# Altium schematic symbol library Schlib1.SchLib: 36 symbols
Pins are listed as number, name and electrical type; pins without a type are passive.

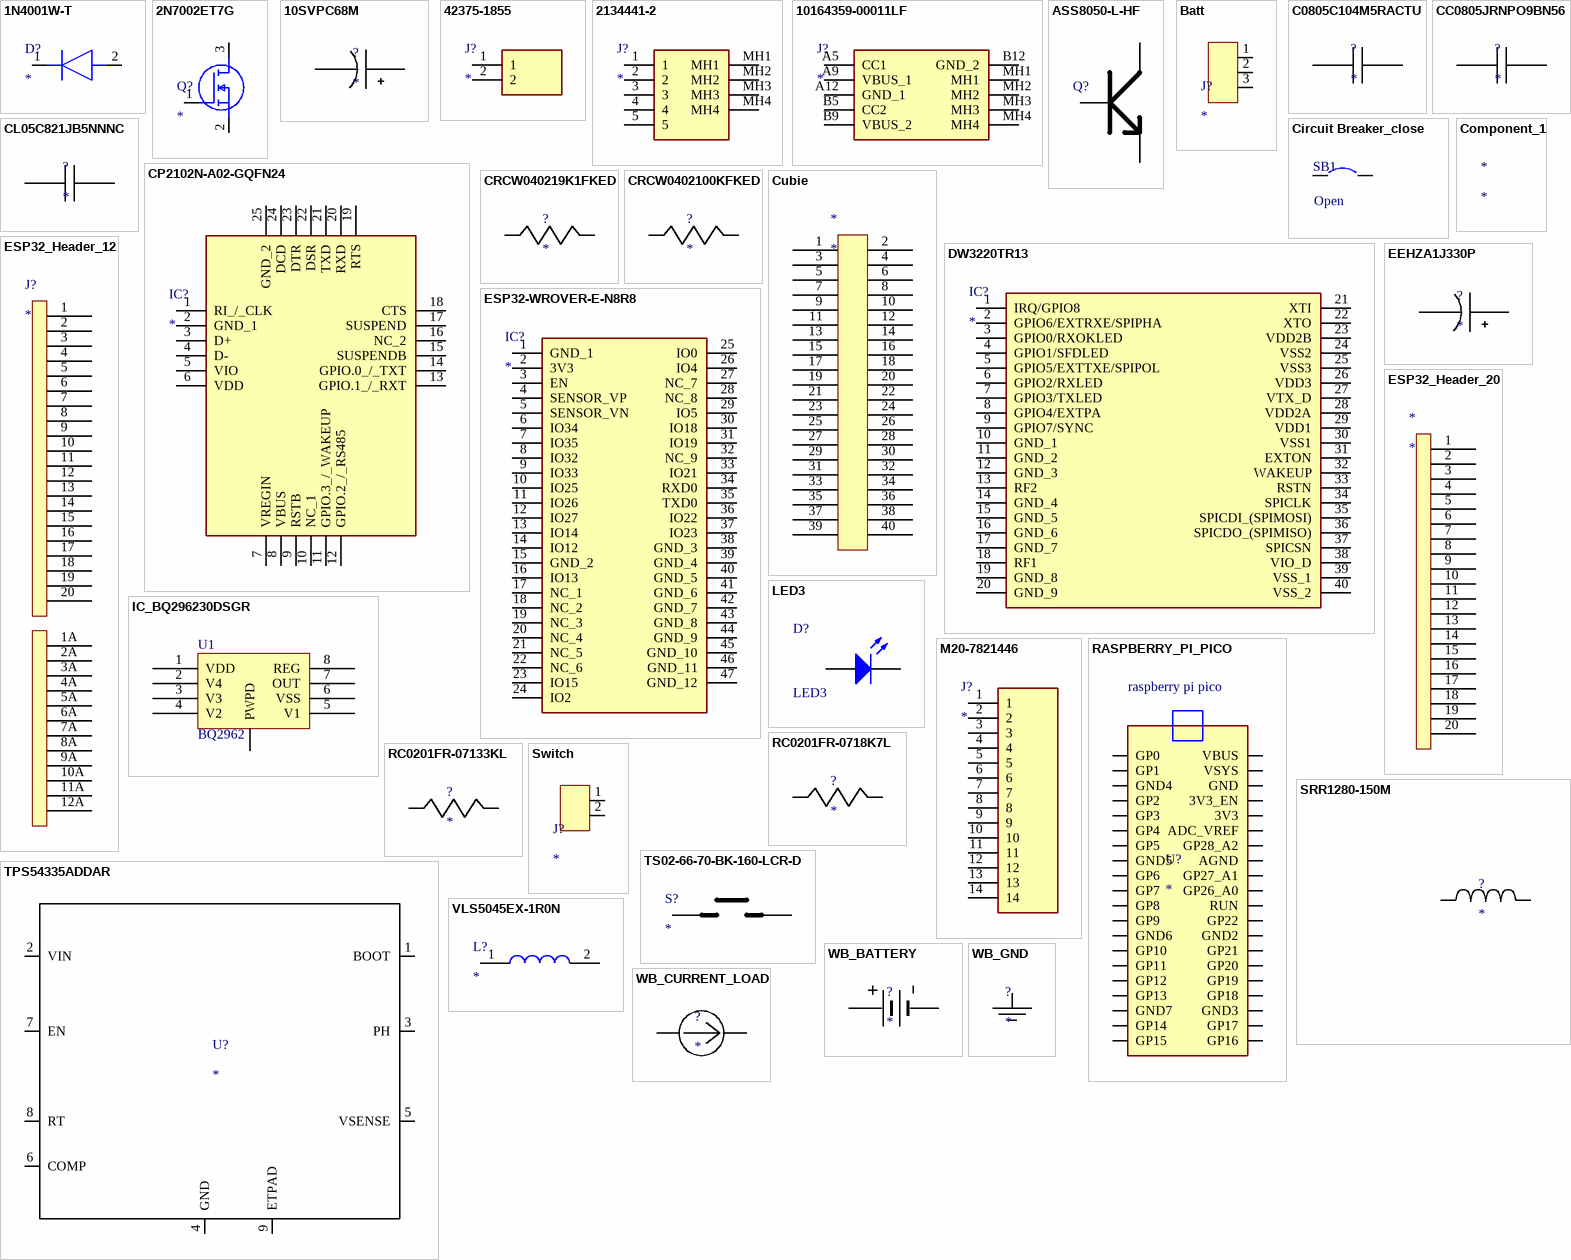
[diagram p0: symbols 1N4001W-T to WB_GND]

## 1N4001W-T
designator D?
Diode; Manufacturer_Name: Rectron; Manufacturer_Part_Number: 1N4001W-T; Description: Rectifiers SOD-123,1A,50V,GP; Datasheet Link: https://gr.mouser.com/datasheet/2/345/1n4001w_1n4007w-2449105.pdf; Height: 1.3mm; Mouser Part Number: 583-1N4001W-T; Mouser Price/Stock: https://www.mouser.co.uk/ProductDetail/Rectron/1N4001W-T?qs=QNEnbhJQKvbnHIVMak28nQ%3D%3D
footprint SODFL3818X130N
pins: 1 K, 2 A

## 2N7002ET7G
designator Q?
MOSFET (N-Channel); Manufacturer_Name: onsemi; Manufacturer_Part_Number: 2N7002ET7G; Description: Small ; Low RDS(on); Trench Technology; RoHS Compliant; Datasheet Link: https://www.onsemi.com/pub/Collateral/2N7002E-D.PDF; Height: 1.11mm; Mouser Part Number: 863-2N7002ET7G; Mouser Price/Stock: https://www.mouser.co.uk/ProductDetail/onsemi/2N7002ET7G?qs=l7cgNqFNU1iSXTOSQi2ecw%3D%3D; Arrow Part Number: 2N7002ET7G; Arrow Price/Stock: https://www.arrow.com/en/products/2n7002et7g/on-semiconductor?utm_currency=USD&region=nac
footprint SOT96P237X111-3N
pins: 1 G, 2 S, 3 D

## 10SVPC68M
designator ?
No Description Available; Manufacturer_Part_Number: 10SVPC68M; Cap: 6.8E-5; ESR: 0.03; IRMS: 1.97; VDC: 10.0; Vendor: Panasonic; Datasheet_URL: https://industrial.panasonic.com/content/data/CP/PDF/OS%2DCON/S%5FOS%2DCON%5FSVPC%5Fe.pdf; Manufacturer_Name: Panasonic; Copyright: Copyright (C) 2018 Accelerated Designs. All rights reserved; RefDes: RefDes; Type: DEV; Value: Value
footprint SM_RADIAL_5MM
pins: 1 +, 2 -

## 42375-1855
designator J?
Connector; Manufacturer_Name: Molex; Manufacturer_Part_Number: 42375-1855; Datasheet Link: http://www.molex.com/pdm_docs/sd/423751855_sd.pdf; Height: 14.94mm; Mouser Part Number: 538-42375-1855; Mouser Price/Stock: https://www.mouser.com/Search/Refine.aspx?Keyword=538-42375-1855
footprint HDRV2W87P0X254_1X2_768X249X1494P
pins: 1, 2

## 2134441-2
designator J?
Connector; Manufacturer_Name: TE Connectivity; Manufacturer_Part_Number: 2134441-2; Description: Body Features: Offset .88 MM | Shell Plating Material Tin over Nickel | Shell Plating Finish Matte | Connector Profile Micro | Configuration Features: Number of Positions 5 | Number of Ports 1 | Contact Features: Contact Mating Area Plating Material Thickness .76 MICM | Contact Current Rating (Max) 1.8 AMP | Contact Mating Area Plating Material Gold | Contact Mating Area Plating Material Thickness 29.52 MICIN | Dimensions: PCB Thickness (Recommended) .8  1. MM | PCB Thickness (Recommended) .031  .039; Datasheet Link: https://www.te.com/commerce/DocumentDelivery/DDEController?Action=srchrtrv&DocNm=5-1773464-3&DocType=Data%20Sheet&DocLang=English&PartCntxt=2134441-2&DocFormat=pdf; Height: 1.9mm; Mouser Part Number: 571-2134441-2; Mouser Price/Stock: https://www.mouser.co.uk/ProductDetail/TE-Connectivity/2134441-2?qs=kAqyOuzYGe%252Bz%252BAPK%2FThl2g%3D%3D; Arrow Part Number: 2134441-2; Arrow Price/Stock: https://www.arrow.com/en/products/2134441-2/te-connectivity?region=nac
footprint 21344412
pins: 1, 2, 3, 4, 5, MH1, MH2, MH3, MH4

## 10164359-00011LF
designator J?
Connector; Manufacturer_Name: Amphenol; Manufacturer_Part_Number: 10164359-00011LF; Datasheet Link: https://cdn.amphenol-cs.com/media/wysiwyg/files/drawing/10164359.pdf; Height: 3.41mm; Mouser Part Number: 649-10164359-00011LF; Mouser Price/Stock: https://www.mouser.co.uk/ProductDetail/Amphenol-FCI/10164359-00011LF?qs=MyNHzdoqoQLpQ%2FmSqA1%252BtQ%3D%3D; Arrow Part Number: 10164359-00011LF; Arrow Price/Stock: https://www.arrow.com/en/products/10164359-00011lf/amphenol-fci?region=nac
footprint 1016435900011LF
pins: A5 CC1, A9 VBUS_1, A12 GND_1, B5 CC2, B9 VBUS_2, B12 GND_2, MH1, MH2, MH3, MH4

## ASS8050-L-HF
designator Q?  (value not drawn)
Transistor; Manufacturer_Name: Comchip Technology; Manufacturer_Part_Number: ASS8050-L-HF; Description: Bipolar Transistors - BJT AUTOMOTIVE TRANS GEN PURP NPN 40V 1.5A 0.3W SOT-23; Datasheet Link: https://br.mouser.com/datasheet/2/80/AQW_JTR13_ASS8050_L_HF_Thru__ASS8050_H_HF_RevA-1923834.pdf; Height: 1.15mm; Mouser Part Number: 750-ASS8050-L-HF; Mouser Price/Stock: https://www.mouser.co.uk/ProductDetail/Comchip-Technology/ASS8050-L-HF?qs=hd1VzrDQEGiiYR01OS8DDQ%3D%3D; Arrow Part Number: ASS8050-L-HF; Arrow Price/Stock: https://www.arrow.com/en/products/ass8050-l-hf/comchip-technology?utm_currency=USD&region=nac
footprint SOT95P240X115-3N
pins: 1 B, 2 E, 3 C

## Batt
designator J?
pins: 1, 2, 3

## C0805C104M5RACTU
designator ?
No Description Available; Manufacturer_Part_Number: C0805C104M5RACTU; Cap: 1.0E-7; ESR: 0.064; IRMS: 1.64; VDC: 50.0; Vendor: Kemet; REFDES_2: RefDes; TYPE_2: TYPE; VALUE_2: Value; Manufacturer_Name: Kemet; Copyright: Copyright (C) 2018 Accelerated Designs. All rights reserved; RefDes: RefDes; Type: DEV; Value: Value
footprint 0805
pins: 1, 2

## CC0805JRNPO9BN56
designator ?
No Description Available; Manufacturer_Part_Number: CC0805JRNPO9BN560; Manufacturer_Name: Yageo; Cap: 5.6E-11; ESR: 0.0; VDC: 50.0; Vendor: Yageo America; REFDES_2: RefDes; TYPE_2: TYPE; VALUE_2: Value; Datasheet_URL: http://www.yageo.com/documents/recent/UPY%2DGP%5FNP0%5F16V%2Dto%2D50V%5F10.pdf; IRMS: 0.0; Copyright: Copyright (C) 2018 Accelerated Designs. All rights reserved; RefDes: RefDes; Type: DEV; Value: Value
footprint 0805
pins: 1, 2

## Circuit Breaker_close
designator SB1, comment Open
Circuit Breaker; Published: 24-Mar-1999; Revision: July-2002: Re-released for DXP Platform.; Publisher: Altium Limited
footprint HDRV2W87P0X254_1X2_768X249X1494P - duplicate
pins: 1, 2

## CL05C821JB5NNNC
designator ?
No Description Available; Manufacturer_Part_Number: CL05C821JB5NNNC; Cap: 8.2E-10; ESR: 0.0; VDC: 50.0; Vendor: Samsung Electro-Mechanics; REFDES_2: RefDes; TYPE_2: TYPE; VALUE_2: Value; Datasheet_URL: http://www.samsungsem.com/servlet/FileDownload?type%3Dspec%26file%3DCL05C821JB5NNNC.pdf; IRMS: 0.0; Manufacturer_Name: Samsung Electro-Mechanics; Copyright: Copyright (C) 2018 Accelerated Designs. All rights reserved; RefDes: RefDes; Type: DEV; Value: Value
footprint 0402
pins: 1, 2

## Component_1
designator *

## CP2102N-A02-GQFN24
designator IC?
Integrated Circuit; Manufacturer_Name: Silicon Labs; Manufacturer_Part_Number: CP2102N-A02-GQFN24; Description: USB Interface IC USB to UART bridge - QFN24; Datasheet Link: https://componentsearchengine.com/Datasheets/1/CP2102N-A02-GQFN24.pdf; Height: 0.8mm; Mouser Part Number: 634-CP2102NA02GQFN24; Mouser Price/Stock: https://www.mouser.co.uk/ProductDetail/Silicon-Labs/CP2102N-A02-GQFN24?qs=u16ybLDytRYKabtL%2FE7DZA%3D%3D; Arrow Part Number: CP2102N-A02-GQFN24; Arrow Price/Stock: https://www.arrow.com/en/products/cp2102n-a02-gqfn24/silicon-labs?utm_currency=USD&region=nac
footprint QFN50P400X400X80-25N-D
pins: 1 RI_/_CLK, 2 GND_1, 3 D+, 4 D-, 5 VIO, 6 VDD, 7 VREGIN, 8 VBUS, 9 RSTB, 10 NC_1, 11 GPIO.3_/_WAKEUP, 12 GPIO.2_/_RS485, 13 GPIO.1_/_RXT, 14 GPIO.0_/_TXT, 15 SUSPENDB, 16 NC_2, 17 SUSPEND, 18 CTS, 19 RTS, 20 RXD, 21 TXD, 22 DSR, 23 DTR, 24 DCD, 25 GND_2

## CRCW040219K1FKED
designator ?
No Description Available; Manufacturer_Part_Number: CRCW040219K1FKED; Resistance: 19100.0; Power: 0.063; Tolerance: 1.0; Vendor: Vishay-Dale; Manufacturer_Name: Vishay-Dale; Copyright: Copyright (C) 2018 Accelerated Designs. All rights reserved; RefDes: RefDes; Type: DEV; Value: Value
footprint 0402
pins: 1, 2

## CRCW0402100KFKED
designator ?
No Description Available; Manufacturer_Part_Number: CRCW0402100KFKED; Resistance: 100000.0; Power: 0.063; Tolerance: 1.0; Vendor: Vishay-Dale; Manufacturer_Name: Vishay-Dale; Copyright: Copyright (C) 2018 Accelerated Designs. All rights reserved; RefDes: RefDes; Type: DEV; Value: Value
footprint 0402
pins: 1, 2

## Cubie
designator *
pins: 1 9, 2 10, 3 11, 4 12, 5 13, 6 14, 7 15, 8 16, 9 17, 10 18, 11 19, 12 20, 13 21, 14 22, 15 23, 16 24, 17, 18, 19, 20, 21, 22, 23, 24, 25, 26, 27, 28, 29, 30, 31, 32, 33, 34, 35, 36, 37, 38, 39, 40

## DW3220TR13
designator IC?
Integrated Circuit; Manufacturer_Name: Qorvo; Manufacturer_Part_Number: DW3220TR13; Description: 6.5 & 8.0 GHz Ultra-Wideband (UWB) Transceiver IC with 2 Antenna Ports; Datasheet Link: https://www.qorvo.com/products/d/da008142; Mouser Part Number: 772-DW3220TR13; Mouser Price/Stock: https://www.mouser.co.uk/ProductDetail/Qorvo/DW3220TR13?qs=hWgE7mdIu5Rlynx3NsHs6w%3D%3D
footprint DW3220TR13-1
pins: 1 IRQ/GPIO8, 2 GPIO6/EXTRXE/SPIPHA, 3 GPIO0/RXOKLED, 4 GPIO1/SFDLED, 5 GPIO5/EXTTXE/SPIPOL, 6 GPIO2/RXLED, 7 GPIO3/TXLED, 8 GPIO4/EXTPA, 9 GPIO7/SYNC, 10 GND_1, 11 GND_2, 12 GND_3, 13 RF2, 14 GND_4, 15 GND_5, 16 GND_6, 17 GND_7, 18 RF1, 19 GND_8, 20 GND_9, 21 XTI, 22 XTO, 23 VDD2B, 24 VSS2, 25 VSS3, 26 VDD3, 27 VTX_D, 28 VDD2A, 29 VDD1, 30 VSS1, 31 EXTON, 32 WAKEUP, 33 RSTN, 34 SPICLK, 35 SPICDI_(SPIMOSI), 36 SPICDO_(SPIMISO), 37 SPICSN, 38 VIO_D, 39 VSS_1, 40 VSS_2

## EEHZA1J330P
designator ?
No Description Available; Manufacturer_Part_Number: EEHZA1J330P; Cap: 3.3E-5; ESR: 0.04; IRMS: 1.7; VDC: 63.0; Vendor: Panasonic; Datasheet_URL: http://industrial.panasonic.com/www%2Ddata/pdf/ABA0000/ABA0000CE136.pdf; Manufacturer_Name: Panasonic; Copyright: Copyright (C) 2018 Accelerated Designs. All rights reserved; RefDes: RefDes; Type: DEV; Value: Value
footprint SM_RADIAL_8MM
pins: 1 +, 2 -

## ESP32-WROVER-E-N8R8
designator IC?
Integrated Circuit; Manufacturer_Name: Espressif Systems; Manufacturer_Part_Number: ESP32-WROVER-E-N8R8; Description: Multiprotocol Modules SMD Module ESP32-WROVER-E; Datasheet Link: https://www.espressif.com/sites/default/files/documentation/esp32-wrover-e_esp32-wrover-ie_datasheet_en.pdf; Height: 3.45mm; Mouser Part Number: 356-ESP32WRVE26464PC; Mouser Price/Stock: https://www.mouser.co.uk/ProductDetail/Espressif-Systems/ESP32-WROVER-E-N8R8?qs=Li%252BoUPsLEnv2mctFVAGY3g%3D%3D
footprint ESP32WROVEREN8R8
pins: 1 GND_1, 2 3V3, 3 EN, 4 SENSOR_VP, 5 SENSOR_VN, 6 IO34, 7 IO35, 8 IO32, 9 IO33, 10 IO25, 11 IO26, 12 IO27, 13 IO14, 14 IO12, 15 GND_2, 16 IO13, 17 NC_1, 18 NC_2, 19 NC_3, 20 NC_4, 21 NC_5, 22 NC_6, 23 IO15, 24 IO2, 25 IO0, 26 IO4, 27 NC_7, 28 NC_8, 29 IO5, 30 IO18, 31 IO19, 32 NC_9, 33 IO21, 34 RXD0, 35 TXD0, 36 IO22, 37 IO23, 38 GND_3, 39 GND_4, 40 GND_5, 41 GND_6, 42 GND_7, 43 GND_8, 44 GND_9, 45 GND_10, 46 GND_11, 47 GND_12

## ESP32_Header_12
designator J?
pins: 1, 1A, 2, 2A, 3, 3A, 4, 4A, 5, 5A, 6, 6A, 7, 7A, 8, 8A, 9, 9A, 10, 10A, 11, 11A, 12, 12A, 13, 14, 15, 16, 17, 18, 19, 20

## ESP32_Header_20
designator *
pins: 1, 2, 3, 4, 5, 6, 7, 8, 9, 10, 11, 12, 13, 14, 15, 16, 17, 18, 19, 20

## IC_BQ296230DSGR
designator U1, comment BQ2962
Battery Management Overvoltage Protection for 2-Series, 3-Series, and 4-Series Cell Li-Ion 8-WSON -40 to 110; Manufacturer: Texas Instruments; Manufacturer Part Number: BQ296230DSGR; Value: BQ296230DSGR; THT/SMT: SMD/SMT; GoSoft: 129274; Supplier 1: Mouser; RoHS: No; Category: Battery Management; Stock 1: 2932; Pricing 1: 1=0.96000, 10=0.86700, 50=0.82200, 100=0.67600, 1000=0.44100, 10000=0.42600 (USD); Supplier: Mouser; Supplier P/N: 595-BQ296230DSGR; Package: WSON-8; Status: Active; Datasheet: https://www.ti.com/general/docs/suppproductinfo.tsp?distId=26&gotoUrl=https://www.ti.com/lit/gpn/bq2962; Note: *; Verified: 0
footprint WSON-8
pins: 1 VDD, 2 V4, 3 V3, 4 V2, 5 V1, 6 VSS, 6 PWPD, 7 OUT, 8 REG

## LED3
designator D?
LED
footprint SolderWires
pins: 1 A, 2 K

## M20-7821446
designator J?
Connector; Manufacturer_Name: Harwin; Manufacturer_Part_Number: M20-7821446; Datasheet Link: https://cdn.harwin.com/pdfs/M20-782.pdf; Height: 8.65mm; Mouser Part Number: 855-M20-7821446; Mouser Price/Stock: https://www.mouser.co.uk/ProductDetail/Harwin/M20-7821446?qs=Jph8NoUxIfX%2FjYzLF0Toqw%3D%3D
footprint RHDR14W70P0X254_1X14_3596X250X865P
pins: 1, 2, 3, 4, 5, 6, 7, 8, 9, 10, 11, 12, 13, 14

## RASPBERRY_PI_PICO
designator U?
Raspberry Pi Board, Arm Cortex-M0+; Core Architecture:Arm; Core Sub-Architecture:Cortex-M0+; Kit Contents:Raspberry Pi Pico Board; No. Of Bits:32Bit; Silicon Core Number:Rp2040; Silicon Manufacturer:Raspberry Pi |Raspberry-Pi RASPBERRY PI PICO; SnapEDA_Link: https://www.snapeda.com/parts/RASPBERRY%20PI%20PICO/Raspberry+Pi/view-part/?ref=snap; Package: None; Value: *; MF: Raspberry Pi; MP: RASPBERRY PI PICO; Check_prices: https://www.snapeda.com/parts/RASPBERRY%20PI%20PICO/Raspberry+Pi/view-part/?ref=eda
footprint RASPBERRY_PI_PICO
pins: 3V3 (io), 3V3_EN (io), ADC_VREF (io), AGND (io), GND (io), GND2 (io), GND3 (io), GND4 (io), GND5 (io), GND6 (io), GND7 (io), GP0 (io), GP1 (io), GP2 (io), GP3 (io), GP4 (io), GP5 (io), GP6 (io), GP7 (io), GP8 (io), GP9 (io), GP10 (io), GP11 (io), GP12 (io), GP13 (io), GP14 (io), GP15 (io), GP16 (io), GP17 (io), GP18 (io), GP19 (io), GP20 (io), GP21 (io), GP22 (io), GP26_A0 (io), GP27_A1 (io), GP28_A2 (io), RUN (io), VBUS (io), VSYS (io)
text: raspberry pi pico

## RC0201FR-0718K7L
designator ?
No Description Available; Manufacturer_Part_Number: RC0201FR-0718K7L; Manufacturer_Name: Yageo; Resistance: 18700.0; Power: 0.05; Tolerance: 1.0; Vendor: Yageo America; Datasheet_URL: http://www.yageo.com/documents/recent/PYu%2DRC%5FGroup%5F51%5FRoHS%5FL%5F5.pdf; Copyright: Copyright (C) 2018 Accelerated Designs. All rights reserved; RefDes: RefDes; Type: DEV; Value: Value
footprint 0201
pins: 1, 2

## RC0201FR-07133KL
designator ?
No Description Available; Manufacturer_Part_Number: RC0201FR-07133KL; Manufacturer_Name: Yageo; Resistance: 133000.0; Power: 0.05; Tolerance: 1.0; Vendor: Yageo America; Datasheet_URL: http://www.yageo.com/documents/recent/PYu%2DRC%5FGroup%5F51%5FRoHS%5FL%5F5.pdf; Copyright: Copyright (C) 2018 Accelerated Designs. All rights reserved; RefDes: RefDes; Type: DEV; Value: Value
footprint 0201
pins: 1, 2

## SRR1280-150M
designator ?
No Description Available; Manufacturer_Part_Number: SRR1280-150M; L: 1.5E-5; DCR: 0.0285; IDC: 5.0; Vendor: Bourns; Manufacturer_Name: Bourns; Copyright: Copyright (C) 2018 Accelerated Designs. All rights reserved; RefDes: RefDes; Type: DEV; Value: Value
footprint SRR1280
footprint SRR1280
pins: 1, 2

## Switch
designator J?
footprint SWITCH SOLDER
pins: 1, 2

## TPS54335ADDAR
designator U?
No Description Available; Frequency: 1500000.0; Imax: 3.0; Mktg_Package: R-PDSO-G8; NSID: TPS54335ADDAR; Vendor: Texas Instruments; Datasheet_URL: http://www.ti.com/product/TPS54335A; Package: R-PDSO-G8; Manufacturer_Part_Number: TPS54335ADDAR; Manufacturer_Name: Texas Instruments; Copyright: Copyright (C) 2018 Accelerated Designs. All rights reserved; RefDes: RefDes; Type: DEV; Value: Value
footprint R-PDSO-G8
pins: 1 BOOT, 2 VIN, 3 PH, 4 GND, 5 VSENSE, 6 COMP, 7 EN, 8 RT, 9 ETPAD

## TS02-66-70-BK-160-LCR-D
designator S?
Switch; Manufacturer_Name: Same Sky; Manufacturer_Part_Number: TS02-66-70-BK-160-LCR-D; Description: 6 x 6 mm; Datasheet Link: https://www.sameskydevices.com/product/resource/ts02.pdf; Height: 7.2mm; Mouser Part Number: 179-TS026670BK160LCR; Mouser Price/Stock: https://www.mouser.co.uk/ProductDetail/CUI-Devices/TS02-66-70-BK-160-LCR-D?qs=A6eO%252BMLsxmSQ8aVkS4Cu7Q%3D%3D; Arrow Part Number: TS02-66-70-BK-160-LCR-D; Arrow Price/Stock: https://www.arrow.com/en/products/ts02-66-70-bk-160-lcr-d/cui-devices?region=nac
footprint TS026670BK160LCRD
pins: 1 NO_1, 4 COM_2

## VLS5045EX-1R0N
designator L?
Inductor; Manufacturer_Name: TDK; Manufacturer_Part_Number: VLS5045EX-1R0N; Datasheet Link: https://product.tdk.com/system/files/dam/doc/product/inductor/inductor/smd/catalog/inductor_commercial_power_vls5045ex_en.pdf; Height: 4mm; Mouser Part Number: 810-VLS5045EX-1R0N; Mouser Price/Stock: https://www.mouser.co.uk/ProductDetail/TDK/VLS5045EX-1R0N?qs=oF%2FSscNnLpB3ZWKi2BLUdQ%3D%3D; Arrow Part Number: VLS5045EX-1R0N; Arrow Price/Stock: https://www.arrow.com/en/products/vls5045ex-1r0n/tdk?region=nac
footprint VLS5045EX330M
pins: 1, 2

## WB_BATTERY
designator ?
No Description Available; Manufacturer_Part_Number: WB_BATTERY; PowerPortType: POWER_GROUND; Value: Value; Manufacturer_Name: WB_BATTERY; Copyright: Copyright (C) 2018 Accelerated Designs. All rights reserved; RefDes: RefDes; TYPE: TYPE
pins: 1 +, 2 -

## WB_CURRENT_LOAD
designator ?
No Description Available; Manufacturer_Part_Number: WB_CURRENT_LOAD; PowerPortType: POWER_GROUND; Value: Value; Manufacturer_Name: WB_CURRENT_LOAD; Copyright: Copyright (C) 2018 Accelerated Designs. All rights reserved; RefDes: RefDes; TYPE: TYPE
pins: 1 +, 2 -

## WB_GND
designator ?
No Description Available; Manufacturer_Part_Number: WB_GND; PowerPortType: POWER_GROUND; Value: Value; Manufacturer_Name: WB_GND; Copyright: Copyright (C) 2018 Accelerated Designs. All rights reserved; RefDes: RefDes; TYPE: TYPE
pins: 1